# Altium integrated library SN74AVC20T245DG.IntLib: 2 symbols
Pins are listed as number, name and electrical type; pins without a type are passive.

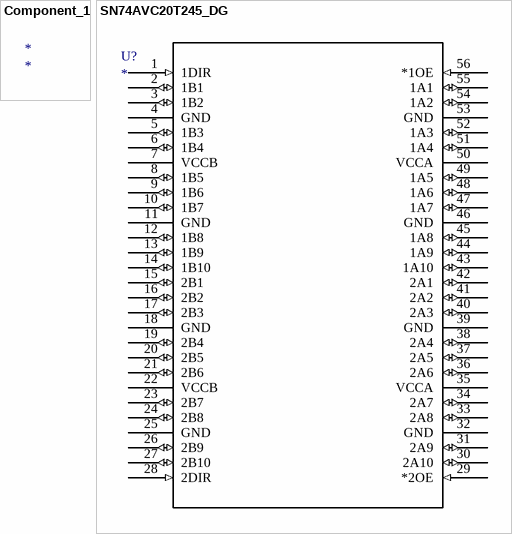
[diagram p0: symbols Component_1 to SN74AVC20T245_DG]

## Component_1
designator *

## SN74AVC20T245_DG
designator U?
Imported; Manufacturer: Texas Instruments; GENERIC_PART_NUMBER: SN74AVC20T245; Manufacturer_Part_Number: sn74avc20t245_dgv_56; INDUSTRY_STD_PKG_TYPE: TVSOP; FAMILY_NAME: DIRECTION CONTROL DUAL SUPPLY TRANSLATOR; PIN_COUNT: 56; PACKAGE_DESIGNATOR: DGV; Datasheet URL: http://www.ti.com/lit/gpn/SN74AVC20T245; Vendor: Texas Instruments; RefDes: RefDes; Type: DEV; Value: Value
footprint DGV56
pins: 1 1DIR (in), 2 1B1 (io), 3 1B2 (io), 4 GND (power), 5 1B3 (io), 6 1B4 (io), 7 VCCB (power), 8 1B5 (io), 9 1B6 (io), 10 1B7 (io), 11 GND (power), 12 1B8 (io), 13 1B9 (io), 14 1B10 (io), 15 2B1 (io), 16 2B2 (io), 17 2B3 (io), 18 GND (power), 19 2B4 (io), 20 2B5 (io), 21 2B6 (io), 22 VCCB (power), 23 2B7 (io), 24 2B8 (io), 25 GND (power), 26 2B9 (io), 27 2B10 (io), 28 2DIR (in), 29 *2OE (in), 30 2A10 (io), 31 2A9 (io), 32 GND (power), 33 2A8 (io), 34 2A7 (io), 35 VCCA (power), 36 2A6 (io), 37 2A5 (io), 38 2A4 (io), 39 GND (power), 40 2A3 (io), 41 2A2 (io), 42 2A1 (io), 43 1A10 (io), 44 1A9 (io), 45 1A8 (io), 46 GND (power), 47 1A7 (io), 48 1A6 (io), 49 1A5 (io), 50 VCCA (power), 51 1A4 (io), 52 1A3 (io), 53 GND (power), 54 1A2 (io), 55 1A1 (io), 56 *1OE (in)